# EAGLE library part LMR33630ADDA (library LMR33630ADDA)
SIMPLE SWITCHER 3.8V to 36V, 3A Synchronous Buck Converter With Ultra-Low EMI Source: Datasheet <http://www.ti.com/lit/ds/symlink/lmr33630.pdf>
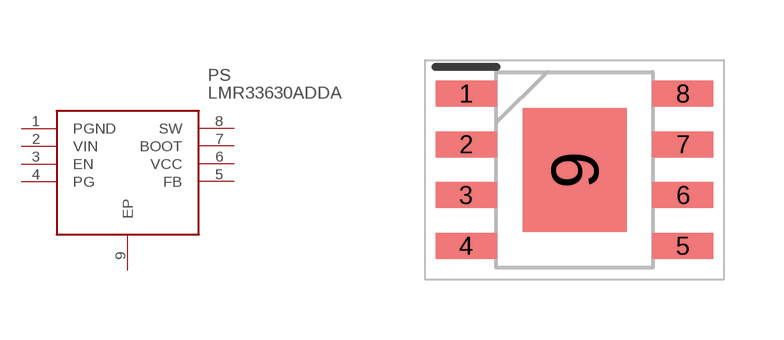
[diagram p0: symbol with the pads of SOIC127P600X170-9N; footprint SOIC127P600X170-9N]

Designator prefix PS

## LMR33630ADDA (Description: SIMPLE SWITCHER 3.8V to 36V, 3A Synchronous Buck Converter With Ultra-Low EMI; Height: 1.7mm; Manufacturer_Name: Texas Instruments; Manufacturer_Part_Number: LMR33630ADDA; Mouser_Part_Number: 595-LMR33630ADDA; Mouser_Price-Stock: https://www.mouser.co.uk/ProductDetail/Texas-Instruments/LMR33630ADDA?qs=r5DSvlrkXmL3yj62Sna%2FpQ%3D%3D)  [SOIC127P600X170-9N]
1  PGND
2  VIN
3  EN
4  PG
5  FB
6  VCC
7  BOOT
8  SW
9  EP

## Footprint SOIC127P600X170-9N (pad centres in mm)
DDA0008J
smd 1.525 x 0.65: 1 -2.712,1.905; 2 -2.712,0.635; 3 -2.712,-0.635; 4 -2.712,-1.905; 5 2.712,-1.905; 6 2.712,-0.635; 7 2.712,0.635; 8 2.712,1.905
smd 2.6 x 3.1: 9 0,0